# Altium footprint library PcbLib.PcbLib: 285 footprints (part 8 of 18)
Each footprint in its own frame and in the unit in brackets; x right, y up, seen from the top. Pads: shape width x height; smd on the part's side, far side on the other; paste and mask are expansions set on the pad; w line width, h text height; cw(c..) or ccw(c..) is an arc to the next point about the centre after c.
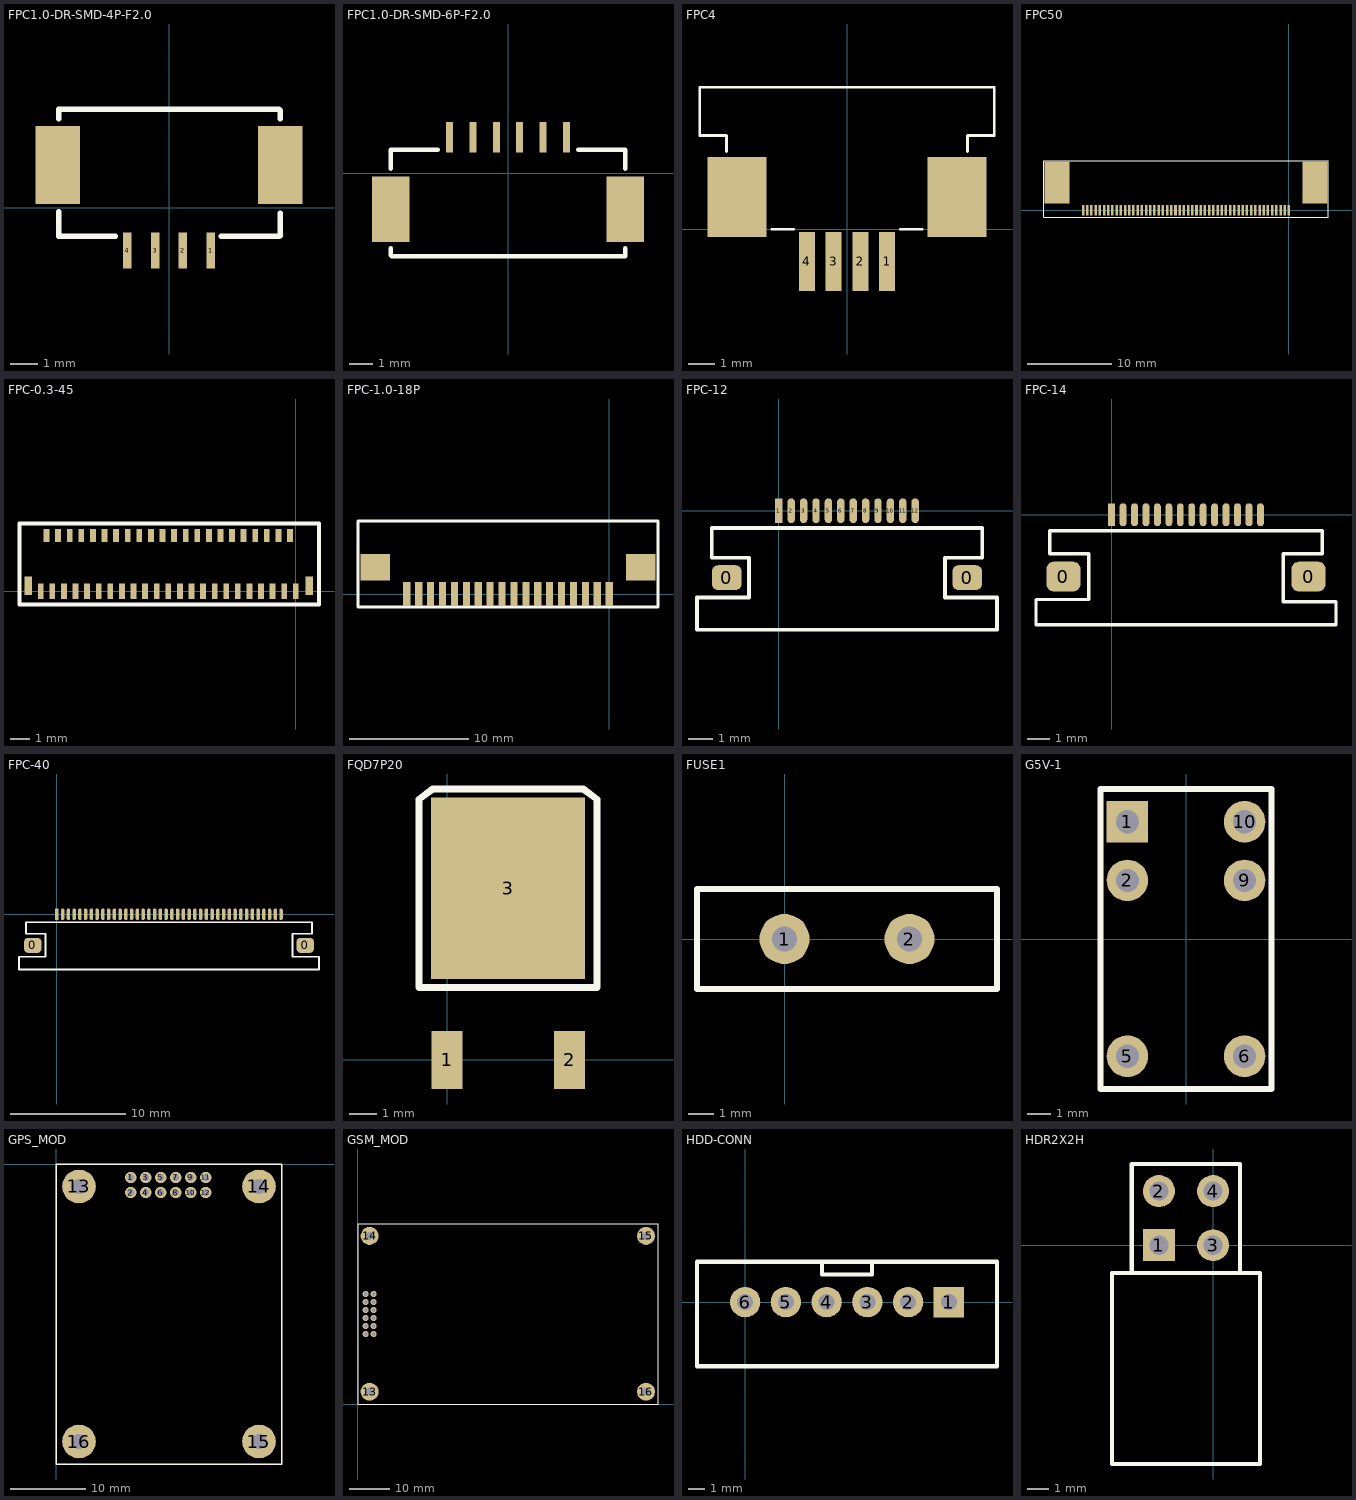
[diagram p7: the footprints below, top view; thin cyan lines are the x and y axes]

## FPC1.0-DR-SMD-4P-F2.0 [mm]
pads (6):
  rect 0.3x1.3 smd: 1(1.5,-1.54) 2(0.5,-1.54) 3(-0.5,-1.54) 4(-1.5,-1.54)
  rect 1.6x2.8 smd: ""(-4,1.54) ""(4,1.54)
Top Overlay:
  lines w0.2: -3.961,-0.143 -3.961,-1.032 -1.929,-1.032 ; -3.961,3.2 -3.961,3.54 3.96,3.54 4,3.5 4,3.2 ; 1.881,-1.032 3.968,-1.032 ; 4,-1 4,-0.2

## FPC1.0-DR-SMD-6P-F2.0 [mm]
pads (8):
  rect 0.3x1.3 smd: 1(2.5,1.54) 2(1.5,1.54) 3(0.5,1.54) 4(-0.5,1.54) 5(-1.5,1.54) 6(-2.5,1.54)
  rect 1.6x2.8 smd: ""(-5,-1.54) ""(5,-1.54)
Top Overlay:
  lines w0.2: -5,-3.2 -5,-3.5 -4.96,-3.54 5,-3.54 5,-3.2 ; -5,0.2 -5,1 -3,1 ; 3,1 5,1 5,0.2

## FPC4 [mm]
pads (6):
  rect 0.6x2.2 smd: 1(1.5,-1.2) 2(0.5,-1.2) 3(-0.5,-1.2) 4(-1.5,-1.2)
  rect 2.2x3 smd: ""(-4.1,1.2) ""(4.1,1.2)
Top Overlay:
  lines w0.1: -4.5,2.9 -4.5,3.5 -5.5,3.5 -5.5,5.3 5.5,5.3 5.5,3.5 4.5,3.5 4.5,2.9 ; -2.8,0 -2,0 ; 2,0 2.8,0

## FPC50 [mm]
pads (52):
  rect 0.3x1.25 smd: 1(0,0) 2(-0.5,0) 3(-1,0) 4(-1.5,0) 5(-2,0) 6(-2.5,0) 7(-3,0) 8(-3.5,0) 9(-4,0) 10(-4.5,0) 11(-5,0) 12(-5.5,0) 13(-6,0) 14(-6.5,0) 15(-7,0) 16(-7.5,0) 17(-8,0) 18(-8.5,0) 19(-9,0) 20(-9.5,0) 21(-10,0) 22(-10.5,0) 23(-11,0) 24(-11.5,0) 25(-12,0) 26(-12.5,0) 27(-13,0) 28(-13.5,0) 29(-14,0) 30(-14.5,0) 31(-15,0) 32(-15.5,0) 33(-16,0) 34(-16.5,0) 35(-17,0) 36(-17.5,0) 37(-18,0) 38(-18.5,0) 39(-19,0) 40(-19.5,0) 41(-20,0) 42(-20.5,0) 43(-21,0) 44(-21.5,0) 45(-22,0) 46(-22.5,0) 47(-23,0) 48(-23.5,0) 49(-24,0) 50(-24.5,0)
  rect 3x5 smd: ""(-27.6,3.3) ""(3.1,3.3)
Top Overlay:
  lines w0.1: -29.2,-0.8 -27.2,-0.8 2.7,-0.8 4.7,-0.8 4.7,5.9 -29.2,5.9 -29.2,-0.8

## FPC-0.3-45 [mm]
pads (47):
  rect 0.3x0.8 smd: 1(0,0) 3(-0.6,0) 5(-1.2,0) 7(-1.8,0) 9(-2.4,0) 11(-3,0) 13(-3.6,0) 15(-4.2,0) 17(-4.8,0) 19(-5.4,0) 21(-6,0) 23(-6.6,0) 25(-7.2,0) 27(-7.8,0) 29(-8.4,0) 31(-9,0) 33(-9.6,0) 35(-10.2,0) 37(-10.8,0) 39(-11.4,0) 41(-12,0) 43(-12.6,0) 45(-13.2,0)
  rect 0.3x0.65 smd: 2(-0.3,2.875) 4(-0.9,2.875) 6(-1.5,2.875) 8(-2.1,2.875) 10(-2.7,2.875) 12(-3.3,2.875) 14(-3.9,2.875) 16(-4.5,2.875) 18(-5.1,2.875) 20(-5.7,2.875) 22(-6.3,2.875) 24(-6.9,2.875) 26(-7.5,2.875) 28(-8.1,2.875) 30(-8.7,2.875) 32(-9.3,2.875) 34(-9.9,2.875) 36(-10.5,2.875) 38(-11.1,2.875) 40(-11.7,2.875) 42(-12.3,2.875) 44(-12.9,2.875)
  rect 0.4x0.95 smd: ""(-13.85,0.275) ""(0.7,0.275)
Top Overlay:
  lines w0.2: -14.3,-0.7 -12.7,-0.7 1.2,-0.7 1.2,3.5 -14.3,3.5 -14.3,-0.7

## FPC-1.0-18P [mm]
pads (20):
  rect 0.6x2 smd: 1(0,0) 2(-1,0) 3(-2,0) 4(-3,0) 5(-4,0) 6(-5,0) 7(-6,0) 8(-7,0) 9(-8,0) 10(-9,0) 11(-10,0) 12(-11,0) 13(-12,0) 14(-13,0) 15(-14,0) 16(-15,0) 17(-16,0) 18(-17,0)
  rect 2.5x2.2 smd: ""(-19.65,2.25) ""(2.65,2.25)
Top Overlay:
  lines w0.254: -17.954,6.125 4.1,6.125 4.1,-1.075 -21.1,-1.075 -21.1,6.125 -17.7,6.125

## FPC-12 [mm]
pads (14):
  rrect50% 1.2x1 smd: 0(-2.1,-2.7) 0(7.6,-2.7)
  rect 0.3x1 smd: 1(0,0)
  oval 0.3x1 smd: 2(0.5,0) 3(1,0) 4(1.5,0) 5(2,0) 6(2.5,0) 7(3,0) 8(3.5,0) 9(4,0) 10(4.5,0) 11(5,0) 12(5.5,0)
Top Overlay:
  lines w0.15: 2.6,-0.7 2.8,-0.7 8.2,-0.7 8.2,-1.9 6.7,-1.9 6.7,-3.5 8.8,-3.5 8.8,-4.8 -3.3,-4.8 -3.3,-3.5 -1.2,-3.5 -1.2,-1.9 -2.7,-1.9 -2.7,-0.7 2.7,-0.7

## FPC-14 [mm]
pads (16):
  rrect50% 1.5x1.3 smd: 0(-2.1,-2.7) 0(8.6,-2.7)
  rect 0.3x1 smd: 1(0,0)
  oval 0.3x1 smd: 2(0.5,0) 3(1,0) 4(1.5,0) 5(2,0) 6(2.5,0) 7(3,0) 8(3.5,0) 9(4,0) 10(4.5,0) 11(5,0) 12(5.5,0) 13(6,0) 14(6.5,0)
Top Overlay:
  lines w0.15: 2.6,-0.7 2.8,-0.7 8.2,-0.7 9.2,-0.7 9.2,-1.7 7.5,-1.7 7.5,-3.8 9.8,-3.8 9.8,-4.8 8.8,-4.8 -3.3,-4.8 -3.3,-3.7 -1,-3.7 -1,-1.7 -2.7,-1.7 -2.7,-0.7 2.7,-0.7

## FPC-40 [mm]
pads (42):
  rrect50% 1.5x1.3 smd: 0(-2.1,-2.7) 0(21.6,-2.7)
  rect 0.3x1 smd: 1(0,0)
  oval 0.3x1 smd: 2(0.5,0) 3(1,0) 4(1.5,0) 5(2,0) 6(2.5,0) 7(3,0) 8(3.5,0) 9(4,0) 10(4.5,0) 11(5,0) 12(5.5,0) 13(6,0) 14(6.5,0) 15(7,0) 16(7.5,0) 17(8,0) 18(8.5,0) 19(9,0) 20(9.5,0) 21(10,0) 22(10.5,0) 23(11,0) 24(11.5,0) 25(12,0) 26(12.5,0) 27(13,0) 28(13.5,0) 29(14,0) 30(14.5,0) 31(15,0) 32(15.5,0) 33(16,0) 34(16.5,0) 35(17,0) 36(17.5,0) 37(18,0) 38(18.5,0) 39(19,0) 40(19.5,0)
Top Overlay:
  lines w0.15: 2.6,-0.7 2.8,-0.7 8.2,-0.7 22.2,-0.7 22.2,-1.7 20.5,-1.7 20.5,-3.7 22.8,-3.7 22.8,-4.8 21.2,-4.8 8.8,-4.8 -3.3,-4.8 -3.3,-3.7 -1,-3.7 -1,-1.7 -2.7,-1.7 -2.7,-0.7 2.7,-0.7

## FQD7P20 [mil]
pads (3):
  rect 45x85 smd: 1(0,0) 2(179,0)
  rect 225x265 smd: 3(89,251)
Top Overlay:
  lines w10: -41,106 -41,381 -21,396 89,396 199,396 219,381 219,106 -41,106

## FUSE1 [mm]
pads (2):
  round 2 hole 1: 1(0,0) 2(5,0)
Top Overlay:
  lines w0.254: -3.5,-2 8.5,-2 8.5,2 2.5,2 -3.5,2 -3.5,-2

## G5V-1 [mm]
pads (6):
  rect 1.8x1.8 hole 1: 1(-2.54,5.08)
  round 1.8 hole 1: 2(-2.54,2.54) 5(-2.54,-5.08) 6(2.54,-5.08) 9(2.54,2.54) 10(2.54,5.08)
Top Overlay:
  lines w0.254: -3.7,-6.5 3.7,-6.5 3.7,6.5 0,6.5 -3.7,6.5 -3.7,-6.5

## GPS_MOD [mm]
pads (16):
  round 1.524 hole 0.889: 1(9.9,-1.8) 2(9.9,-3.8) 3(11.9,-1.8) 4(11.9,-3.8) 5(13.9,-1.8) 6(13.9,-3.8) 7(15.9,-1.8) 8(15.9,-3.8) 9(17.9,-1.8) 10(17.9,-3.8) 11(19.9,-1.8) 12(19.9,-3.8)
  round 4.5 hole 2: 13(3,-3) 14(27,-3) 15(27,-37) 16(3,-37)
Top Overlay:
  lines w0.2: 0,-40 30,-40 30,0 0,0 0,-40

## GSM_MOD [mm]
pads (16):
  round 1.524 hole 0.889: 1(2,17.5) 2(4,17.5) 3(2,19.5) 4(4,19.5) 5(2,21.5) 6(4,21.5) 7(2,23.5) 8(4,23.5) 9(2,25.5) 10(4,25.5) 11(2,27.5) 12(4,27.5)
  round 4.5 hole 2: 13(3,3.1) 14(3,42) 15(72,42) 16(72,3.1)
Top Overlay:
  lines w0.2: 0.1,0 0.1,45 75,45 75,0 0.1,0

## HDD-CONN [mm]
pads (6):
  rect 1.9x1.9 hole 1: 1(12.7,0)
  round 1.9 hole 1: 2(10.16,0) 3(7.62,0) 4(5.08,0) 5(2.54,0) 6(0,0)
Top Overlay:
  lines w0.254: -3,-0.01 -3,-4 13.1,-4 15.7,-4 15.7,2.5 ; -3,0 -3,2.5 ; -2.99,2.51 13.11,2.51 15.69,2.51 ; 4.8,2.47 4.8,1.71 7.9,1.71 7.9,2.5

## HDR2X2H [mm]
pads (4):
  rect 1.5x1.5 hole 0.9: 1(-2.54,0)
  round 1.5 hole 0.9: 2(-2.54,2.54) 3(0,0) 4(0,2.54)
Top Overlay:
  lines w0.2: -3.78,-1.3 1.26,-1.3 ; -3.78,-1.3 -3.81,-1.27 -3.81,3.81 1.25,3.81 1.26,3.8 1.26,-1.3 ; -3.78,-1.3 -4.74,-1.3 -4.74,-10.26 2.2,-10.26 2.2,-1.3 1.26,-1.3